# EAGLE library part MM74HC244WM (library Fairchild_By_element14_Batch_1)
Octal 3-STATE Buffer
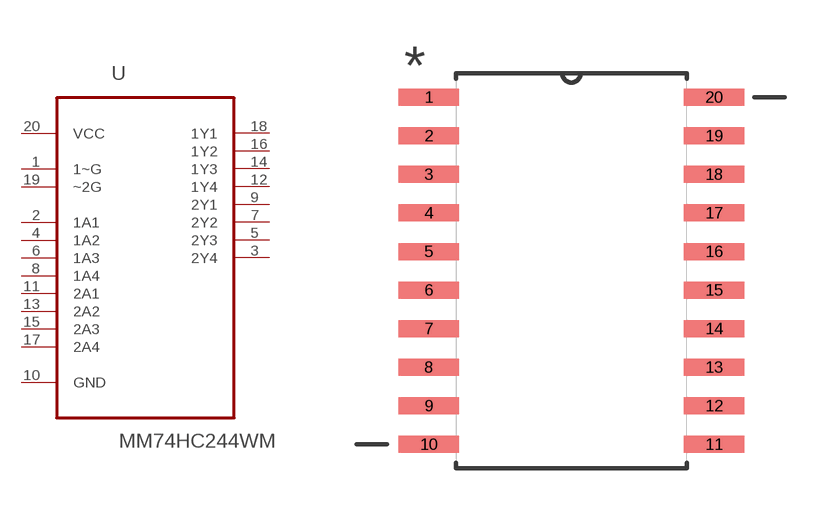
[diagram p264: symbol with the pads of SOIC127P1032X265-20N; footprint SOIC127P1032X265-20N]

Designator prefix U

## MM74HC244WM (MPN: MM74HC244WM; OC_FARNELL: 1013972; OC_NEWARK: 78K6070; PACKAGE: SOIC-20; SUPPLIER: Fairchild)  [SOIC127P1032X265-20N]
1  1~G  in
2  1A1  in
3  2Y4  out
4  1A2  in
5  2Y3  out
6  1A3  in
7  2Y2  out
8  1A4  in
9  2Y1  out
10  GND  pas
11  2A1  in
12  1Y4  out
13  2A2  in
14  1Y3  out
15  2A3  in
16  1Y2  out
17  2A4  in
18  1Y1  out
19  ~2G  in
20  VCC  pwr

## Footprint SOIC127P1032X265-20N (pad centres in mm)
smd 1.981 x 0.559: 1 -4.699,5.715; 2 -4.699,4.445; 3 -4.699,3.175; 4 -4.699,1.905; 5 -4.699,0.635; 6 -4.699,-0.635; 7 -4.699,-1.905; 8 -4.699,-3.175; 9 -4.699,-4.445; 10 -4.699,-5.715; 11 4.699,-5.715; 12 4.699,-4.445; 13 4.699,-3.175; 14 4.699,-1.905; 15 4.699,-0.635; 16 4.699,0.635; 17 4.699,1.905; 18 4.699,3.175; 19 4.699,4.445; 20 4.699,5.715